# Altium footprint library IC.PCBLIB: 54 footprints (part 2 of 4)
Each footprint in its own frame and in the unit in brackets; x right, y up, seen from the top. Pads: shape width x height; smd on the part's side, far side on the other; paste and mask are expansions set on the pad; w line width, h text height; cw(c..) or ccw(c..) is an arc to the next point about the centre after c.
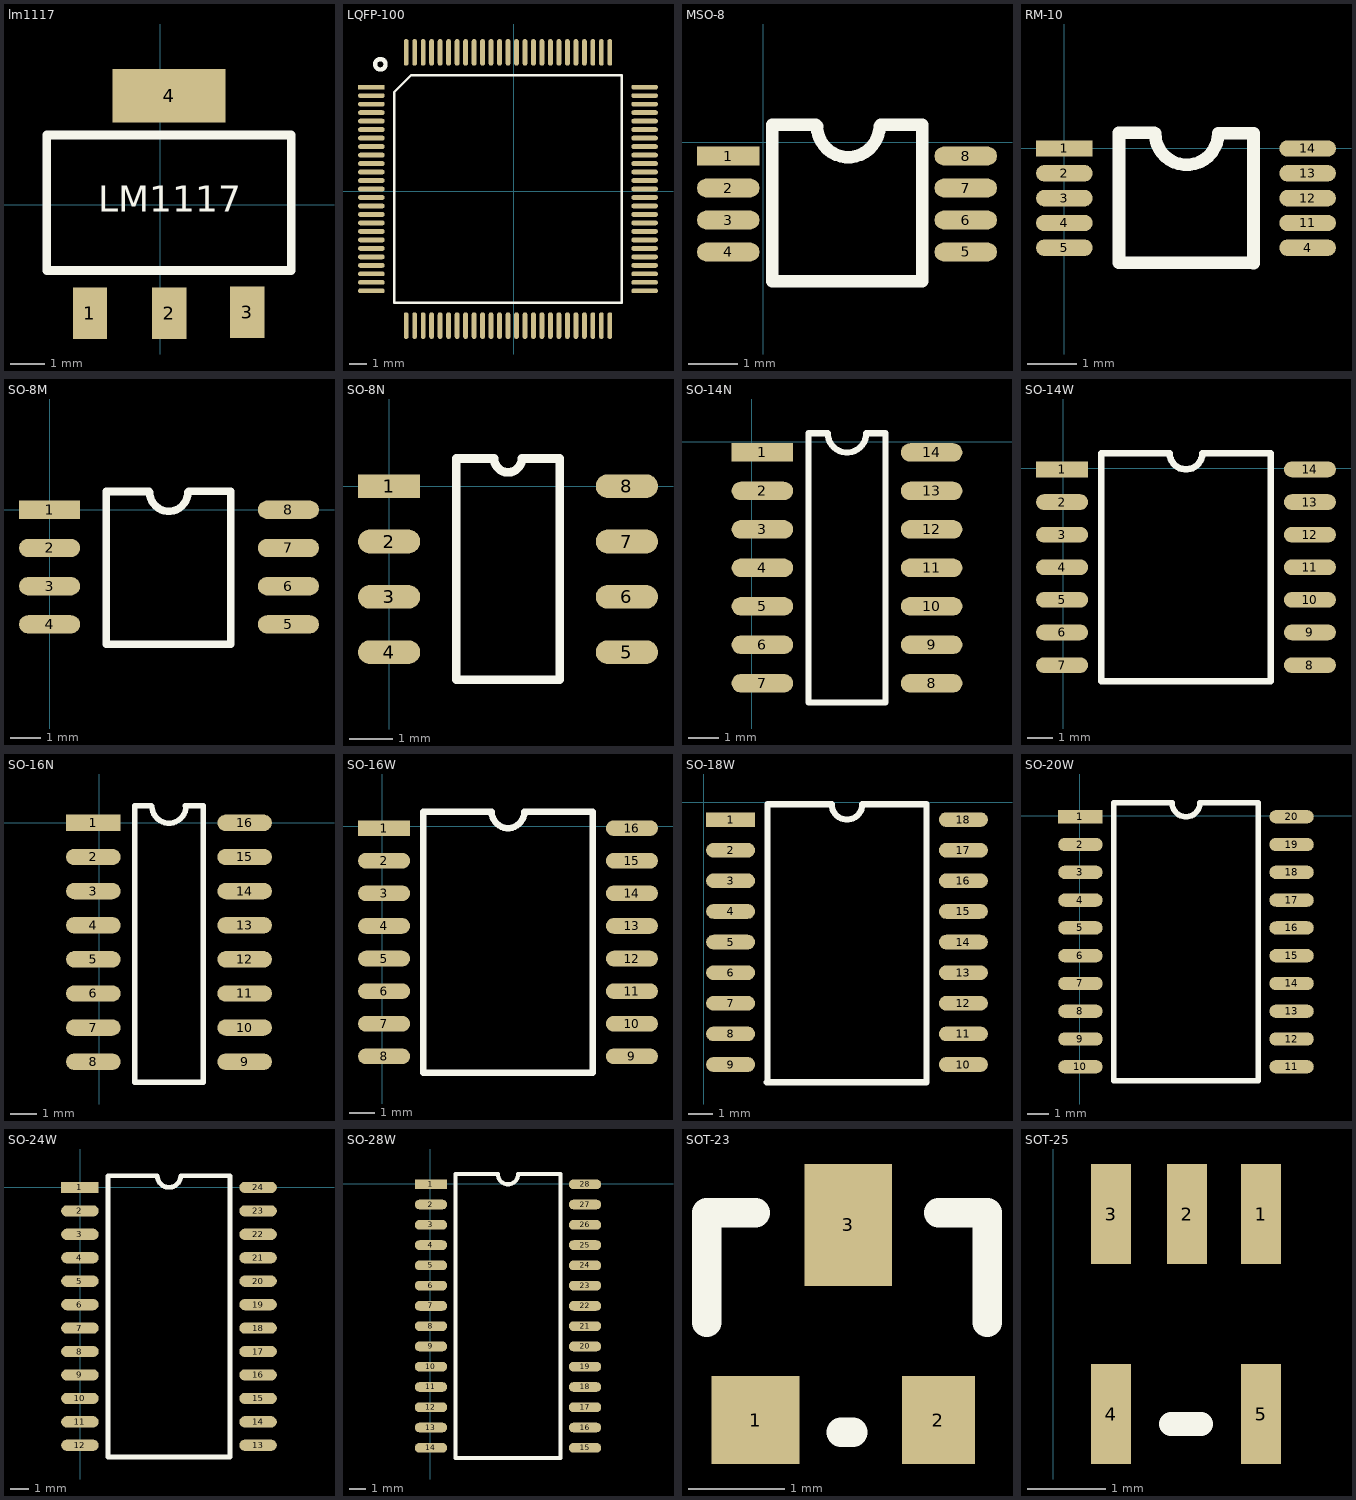
[diagram p1: the footprints below, top view; thin cyan lines are the x and y axes]

## lm1117 [mm]
pads (4):
  rect 1x1.5 smd: 1(-2.043,-3.148) 2(0.256,-3.148) 3(2.53,-3.123)
  rect 3.3x1.549 smd: 4(0.254,3.175)
TopOverlay:
  lines w0.254: -3.302,-1.905 -3.302,2.032 3.81,2.032 3.81,-1.905 -3.302,-1.905
  text "LM1117" at -1.8,-0.2 h0.76

## LQFP-100 [mil]
pads (100):
  rect 62x11.02 smd: 1(-330,241)
  oval 62x11.02 smd: 2(-330,221.31) 3(-330,201.63) 4(-330,181.94) 5(-330,162.26) 6(-330,142.57) 7(-330,122.89) 8(-330,103.2) 9(-330,83.52) 10(-330,63.84) 11(-330,44.15) 12(-330,24.46) 13(-330,4.78) 14(-330,-14.9) 15(-330,-34.59) 16(-330,-54.27) 17(-330,-73.96) 18(-330,-93.64) 19(-330,-113.33) 20(-330,-133.01) 21(-330,-152.7) 22(-330,-172.38) 23(-330,-192.07) 24(-330,-211.75) 25(-330,-231.44) 51(303.87,-231.44) 52(303.87,-211.75) 53(303.87,-192.07) 54(303.87,-172.38) 55(303.87,-152.7) 56(303.87,-133.01) 57(303.87,-113.33) 58(303.87,-93.64) 59(303.87,-73.96) 60(303.87,-54.27) 61(303.87,-34.59) 62(303.87,-14.9) 63(303.87,4.78) 64(303.87,24.46) 65(303.87,44.15) 66(303.87,63.84) 67(303.87,83.52) 68(303.87,103.2) 69(303.87,122.89) 70(303.87,142.57) 71(303.87,162.26) 72(303.87,181.94) 73(303.87,201.63) 74(303.87,221.31) 75(303.87,241)
  oval 11.02x62 smd: 26(-249.28,-312.16) 27(-229.6,-312.16) 28(-209.91,-312.16) 29(-190.23,-312.16) 30(-170.54,-312.16) 31(-150.86,-312.16) 32(-131.17,-312.16) 33(-111.49,-312.16) 34(-91.8,-312.16) 35(-72.12,-312.16) 36(-52.43,-312.16) 37(-32.75,-312.16) 38(-13.06,-312.16) 39(6.62,-312.16) 40(26.31,-312.16) 41(45.99,-312.16) 42(65.68,-312.16) 43(85.36,-312.16) 44(105.05,-312.16) 45(124.73,-312.16) 46(144.42,-312.16) 47(164.1,-312.16) 48(183.79,-312.16) 49(203.47,-312.16) 50(223.16,-312.16) 76(223.16,321.72) 77(203.47,321.72) 78(183.79,321.72) 79(164.1,321.72) 80(144.42,321.72) 81(124.73,321.72) 82(105.05,321.72) 83(85.36,321.72) 84(65.68,321.72) 85(45.99,321.72) 86(26.31,321.72) 87(6.62,321.72) 88(-13.06,321.72) 89(-32.75,321.72) 90(-52.43,321.72) 91(-72.12,321.72) 92(-91.8,321.72) 93(-111.49,321.72) 94(-131.17,321.72) 95(-150.86,321.72) 96(-170.54,321.72) 97(-190.23,321.72) 98(-209.91,321.72) 99(-229.6,321.72) 100(-249.28,321.72)
TopOverlay:
  circle w10: c-309.17,294 r12.16
  lines w5.91: -277.24,-259.39 251.11,-259.39 251.11,268.95 -237.47,268.95 -277.24,229.19 -277.24,-259.39

## MSO-8 [mil]
pads (8):
  rect 50x15 smd: 1(-28,-11)
  oval 50x15 smd: 2(-28,-36.6) 3(-28,-62.2) 4(-28,-87.8) 5(162,-87.8) 6(162,-62.2) 7(162,-36.6) 8(162,-11)
TopOverlay:
  lines w10: 42,14 7,14 7,-111 127,-111 127,14 94,14 ; 43,13 ccw(c68,13) 93,13

## RM-10 [mm]
pads (10):
  rect 1.143x0.33 smd: 1(0,0)
  oval 1.143x0.33 smd: 2(0,-0.5) 3(0,-1) 4(0,-1.5) 4(4.9,-2) 5(0,-2) 11(4.9,-1.5) 12(4.9,-1) 13(4.9,-0.5) 14(4.9,0)
TopOverlay:
  lines w0.254: 1.814,0.32 1.1,0.32 1.1,-2.3 3.799,-2.3 ; 1.829,0.305 ccw(c2.464,0.305) 3.099,0.305 3.806,0.305 ; 3.81,-2.311 3.81,0.309

## SO-8M [mil]
pads (8):
  rect 80x24 smd: 1(0,0)
  oval 80x24 smd: 2(0,-50) 3(0,-100) 4(0,-150) 5(312.6,-150) 6(312.6,-100) 7(312.6,-50) 8(312.6,0)
TopOverlay:
  lines w10: 130.06,23.94 74.39,23.94 74.39,-176.06 237.01,-176.06 ; 131,23 ccw(c156,23) 181,23 ; 182,24 237.01,24 ; 236.01,23 237.01,24 ; 237.01,-176 237.01,24

## SO-8N [mm]
pads (8):
  rect 1.44x0.55 smd: 1(0,0)
  oval 1.44x0.55 smd: 2(0,-1.28) 3(0,-2.56) 4(0,-3.84) 5(5.5,-3.84) 6(5.5,-2.56) 7(5.5,-1.28) 8(5.5,0)
TopOverlay:
  lines w0.2: 1.555,-4.48 3.945,-4.48 3.945,0.64 3.07,0.64 cw(c2.75,0.64) 2.43,0.64 1.555,0.64 1.555,-4.48

## SO-14N [mil]
pads (14):
  rect 80x24 smd: 1(14,-14)
  oval 80x24 smd: 2(14,-64) 3(14,-114) 4(14,-164) 5(14,-214) 6(14,-264) 7(14,-314) 8(234,-314) 9(234,-264) 10(234,-214) 11(234,-164) 12(234,-114) 13(234,-64) 14(234,-14)
TopOverlay:
  lines w8: 74,-339 174,-339 174,11 149,11 cw(c124,11) 99,11 74,11 74,-339

## SO-14W [mil]
pads (14):
  rect 80x24 smd: 1(-2,-2)
  oval 80x24 smd: 2(-2,-52) 3(-2,-102) 4(-2,-152) 5(-2,-202) 6(-2,-252) 7(-2,-302) 8(378,-302) 9(378,-252) 10(378,-202) 11(378,-152) 12(378,-102) 13(378,-52) 14(378,-2)
TopOverlay:
  lines w10: 58,-327 318,-327 318,23 213,23 cw(c188,23) 163,23 58,23 58,-327

## SO-16N [mil]
pads (16):
  rect 80x24 smd: 1(-9,0.1)
  oval 80x24 smd: 2(-9,-49.9) 3(-9,-99.9) 4(-9,-149.9) 5(-9,-199.9) 6(-9,-249.9) 7(-9,-299.9) 8(-9,-349.9) 9(212.9,-349.9) 10(212.9,-299.9) 11(212.9,-249.9) 12(212.9,-199.9) 13(212.9,-149.9) 14(212.9,-99.9) 15(212.9,-49.9) 16(212.9,0.1)
TopOverlay:
  lines w8: 51.9,24.72 51.9,-379.9 151.9,-379.9 151.9,24.72 ; 51.9,25.1 76,25.1 ; 76.9,24.72 ccw(c101.9,24.72) 126.9,24.72 ; 126,25.1 151.9,25.1

## SO-16W [mil]
pads (16):
  rect 80x24 smd: 1(3,-3)
  oval 80x24 smd: 2(3,-53) 3(3,-103) 4(3,-153) 5(3,-203) 6(3,-253) 7(3,-303) 8(3,-353) 9(383,-353) 10(383,-303) 11(383,-253) 12(383,-203) 13(383,-153) 14(383,-103) 15(383,-53) 16(383,-3)
TopOverlay:
  lines w10: 167.72,22 63,22 63,-378 323,-378 323,22 218,22 cw(c193,22) 168,22

## SO-18W [mil]
pads (18):
  rect 80x24 smd: 1(44,-28)
  oval 80x24 smd: 2(44,-78) 3(44,-128) 4(44,-178) 5(44,-228) 6(44,-278) 7(44,-328) 8(44,-378) 9(44,-428) 10(424,-428) 11(424,-378) 12(424,-328) 13(424,-278) 14(424,-228) 15(424,-178) 16(424,-128) 17(424,-78) 18(424,-28)
TopOverlay:
  lines w10: 103,-457 363,-457 ; 104,-457 104,-3 209,-3 ccw(c234,-3) 259,-3 364,-3 364,-457

## SO-20W [mil]
pads (20):
  rect 80x24 smd: 1(1,-2)
  oval 80x24 smd: 2(1,-52) 3(1,-102) 4(1,-152) 5(1,-202) 6(1,-252) 7(1,-302) 8(1,-352) 9(1,-402) 10(1,-452) 11(381,-452) 12(381,-402) 13(381,-352) 14(381,-302) 15(381,-252) 16(381,-202) 17(381,-152) 18(381,-102) 19(381,-52) 20(381,-2)
TopOverlay:
  lines w10: 61,-477 321,-477 321,23 216,23 cw(c191,23) 166,23 61,23 61,-477

## SO-24W [mil]
pads (24):
  rect 80x24 smd: 1(-1,0)
  oval 80x24 smd: 2(-1,-50) 3(-1,-100) 4(-1,-150) 5(-1,-200) 6(-1,-250) 7(-1,-300) 8(-1,-350) 9(-1,-400) 10(-1,-450) 11(-1,-500) 12(-1,-550) 13(379,-550) 14(379,-500) 15(379,-450) 16(379,-400) 17(379,-350) 18(379,-300) 19(379,-250) 20(379,-200) 21(379,-150) 22(379,-100) 23(379,-50) 24(379,0)
TopOverlay:
  lines w10: 59,-575 59,25 164,25 ccw(c189,25) 214,25 319,25 319,-575 59,-575

## SO-28W [mil]
pads (28):
  rect 80x24 smd: 1(2,-1)
  oval 80x24 smd: 2(2,-51) 3(2,-101) 4(2,-151) 5(2,-201) 6(2,-251) 7(2,-301) 8(2,-351) 9(2,-401) 10(2,-451) 11(2,-501) 12(2,-551) 13(2,-601) 14(2,-651) 15(382,-651) 16(382,-601) 17(382,-551) 18(382,-501) 19(382,-451) 20(382,-401) 21(382,-351) 22(382,-301) 23(382,-251) 24(382,-201) 25(382,-151) 26(382,-101) 27(382,-51) 28(382,-1)
TopOverlay:
  lines w10: 62,-676 62,24 167,24 ccw(c192,24) 217,24 322,24 322,-676 62,-676

## SOT-23 [mil]
pads (3):
  rect 36x36 smd: 1(47.76,-120.28)
  rect 30x36 smd: 2(122.75,-120.28)
  rect 36x50 smd: 3(85.75,-40.28)
TopOverlay:
  lines w12: 27.75,-80.28 27.75,-35.28 47.76,-35.28 ; 82.75,-125.28 87.75,-125.28 ; 122.75,-35.28 142.75,-35.28 142.75,-80.28

## SOT-25 [mil]
pads (5):
  rect 20x50 smd: 1(104,-40) 2(67,-40) 3(29,-40) 4(29,-140) 5(104,-140)
TopOverlay:
  lines w12: 59,-145 74,-145